# Altium schematic symbol library USB Connectors WR-COM.SchLib: 47 symbols (part 1 of 2)
Pins are listed as number, name and electrical type; pins without a type are passive.

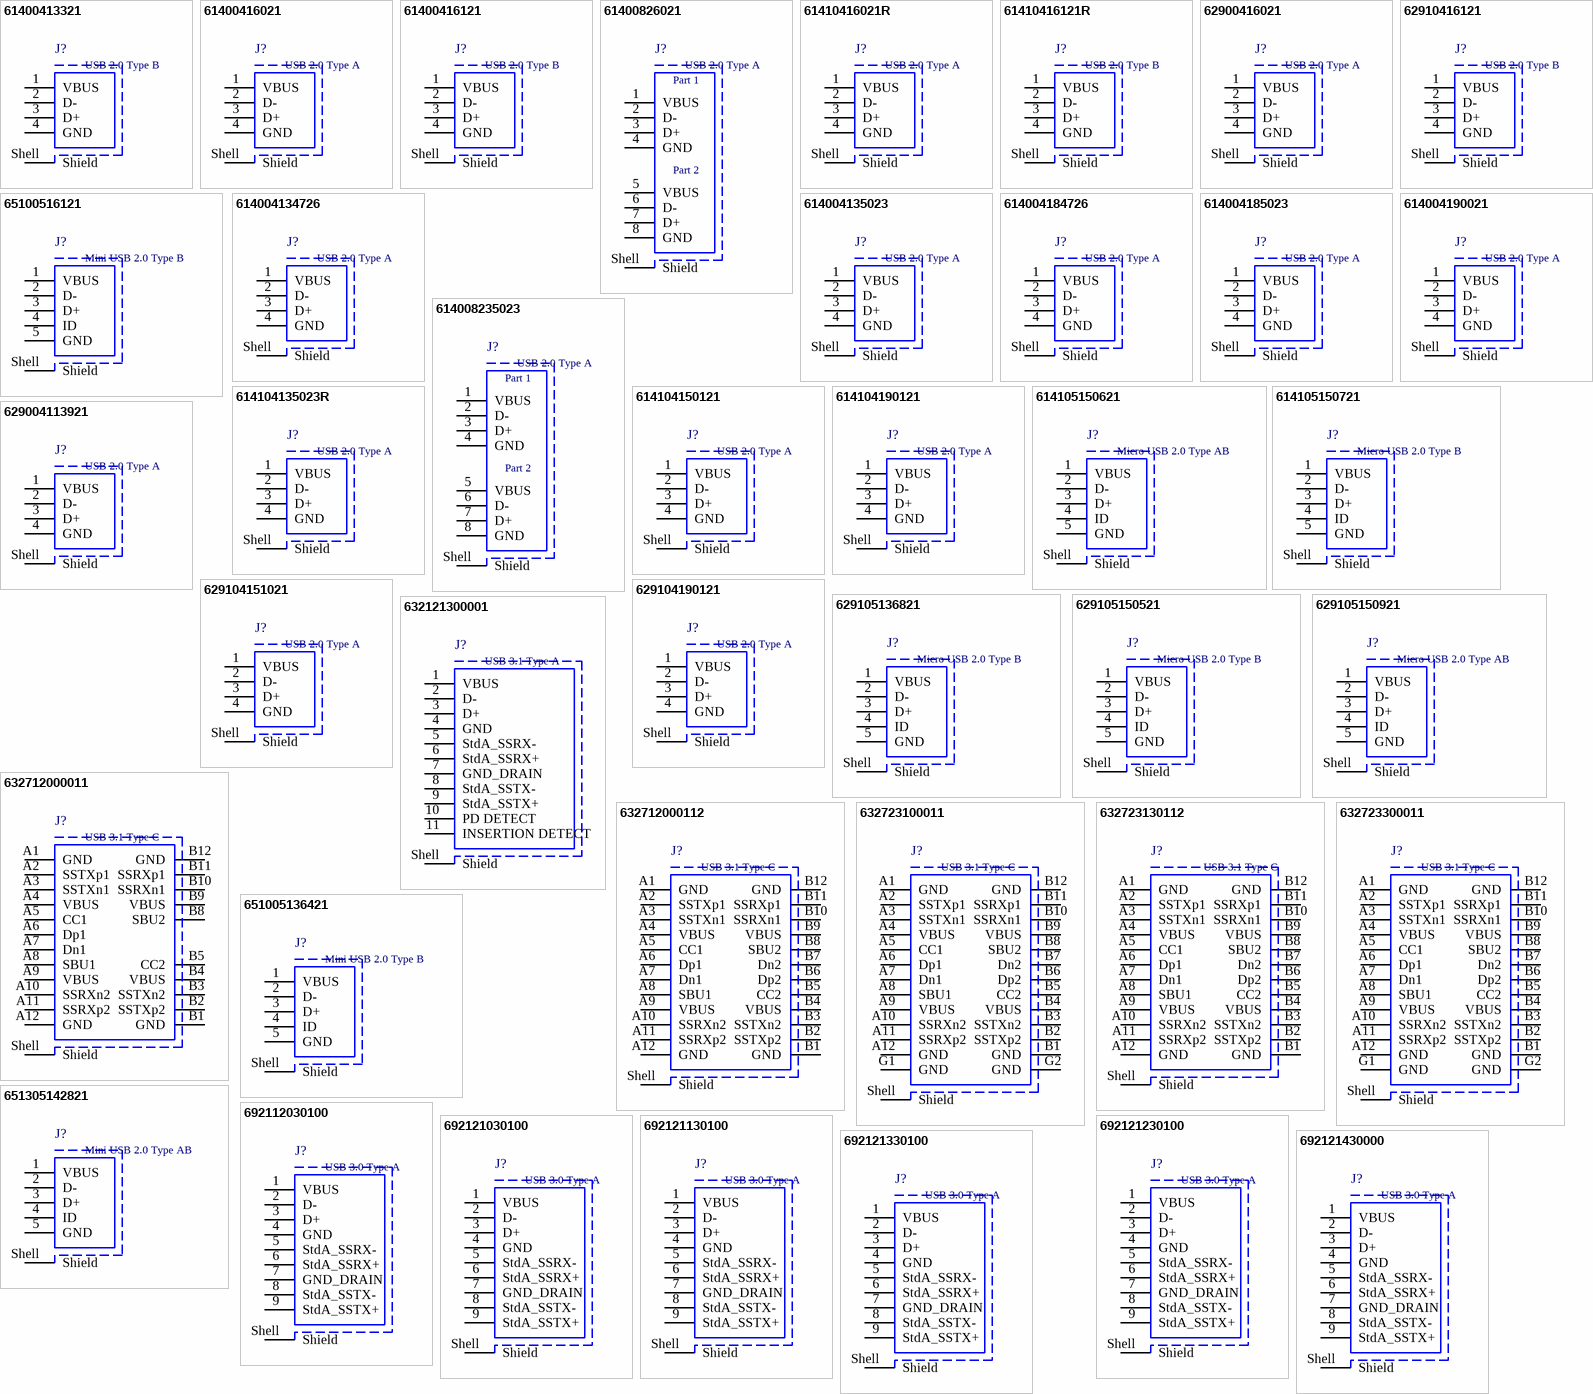
[diagram p0: symbols 61400413321 to 692121430000]

## 61400413321
designator J?, comment USB 2.0 Type B
USB 2.0 Type B Receptacle WR-COM, Vertical, THT; Manufacturer: Wurth Elektronik; Manufacturer Part Number: 61400413321; Rated Current: 1.5 A; Contact Resistance: 20 mOhm; Working Voltage: 30 VAC; ComponentLink1Description: Datasheet; ComponentLink1URL: https://katalog.we-online.de/em/datasheet/61400413321.pdf; Published Date: September 2018; Orientation: Vertical; Connector Type: USB 2.0 Type B; Operating Temperature: -40 to 105 degC; Gender: Receptacle; Packaging: Tray; Supplier 1 URL: https://www.mouser.vn/ProductDetail/Wurth-Elektronik/61400413321?qs=rS3zZhy2AQPX0EcryzeSDw%3D%3D; Supplier 2 URL: N/A; Supplier 3 SN: N/A; Supplier 3 URL: https://www.thegioiic.com/bf180-cong-usb-cai-2-0-type-b-4-chan-thang-xuyen-lo; Value: USB 2.0 Type B; LCSC Part #: N/A; Mount: THT; Package / Case: N/A; Supplier 1: Mouser; Supplier 1 Part Number: 710-61400413321; Supplier 2: Digi-Key; Supplier 2 Part Number: N/A; Supplier 3: thegioiic; Supplier 3 Part Number: N/A
footprint 61400413321
pins: 1 VBUS, 2 D-, 3 D+, 4 GND, Shell Shield

## 61400416021
designator J?, comment USB 2.0 Type A
USB 2.0 Type A Receptacle WR-COM, Horizontal, THT; Manufacturer: Wurth Elektronik; Manufacturer Part Number: 61400416021; Rated Current: 1.5 A; Contact Resistance: 20 mOhm; Working Voltage: 30 VAC; ComponentLink1Description: Datasheet; ComponentLink1URL: https://katalog.we-online.de/em/datasheet/61400416021.pdf; Published Date: September 2018; Orientation: Horizontal; Connector Type: USB 2.0 Type A; Operating Temperature: -40 to 105 degC; Gender: Receptacle; Packaging: Tray; Supplier 1 URL: https://www.mouser.vn/ProductDetail/Wurth-Elektronik/61400416021?qs=rS3zZhy2AQM1ZldAqz%2FFOw%3D%3D; Supplier 2 URL: N/A; Supplier 3 SN: N/A; Supplier 3 URL: N/A; Value: USB 2.0 Type A; LCSC Part #: N/A; Mount: THT; Package / Case: N/A; Supplier 1: Mouser; Supplier 1 Part Number: 710-61400416021; Supplier 2: Digi-Key; Supplier 2 Part Number: N/A; Supplier 3: thegioiic; Supplier 3 Part Number: N/A
footprint 61400416021
pins: 1 VBUS, 2 D-, 3 D+, 4 GND, Shell Shield

## 61400416121
designator J?, comment USB 2.0 Type B
USB 2.0 Type B Receptacle WR-COM, Horizontal, THT, with Pads and Pegs; Manufacturer: Wurth Elektronik; Manufacturer Part Number: 61400416121; Rated Current: 1.5 A; Contact Resistance: 20 mOhm; Working Voltage: 30 VAC; ComponentLink1Description: Datasheet; ComponentLink1URL: https://katalog.we-online.de/em/datasheet/61400416121.pdf; Published Date: September 2018; Orientation: Horizontal; Connector Type: USB 2.0 Type B; Operating Temperature: -40 to 105 degC; Gender: Receptacle; Packaging: Tray; Supplier 1 URL: https://www.mouser.vn/ProductDetail/Wurth-Elektronik/61400416121?qs=rS3zZhy2AQOfJvFesH7XZA%3D%3D; Supplier 2 URL: N/A; Supplier 3 SN: N/A; Supplier 3 URL: N/A; Value: USB 2.0 Type B; LCSC Part #: N/A; Mount: THT; Package / Case: N/A; Supplier 1: Mouser; Supplier 1 Part Number: 710-61400416121; Supplier 2: Digi-Key; Supplier 2 Part Number: N/A; Supplier 3: thegioiic; Supplier 3 Part Number: N/A
footprint 61400416121
pins: 1 VBUS, 2 D-, 3 D+, 4 GND, Shell Shield

## 61400826021
designator J?, comment USB 2.0 Type A
USB 2.0 Type A Receptacle WR-COM, Stacked Horizontal, THT; Manufacturer: Wurth Elektronik; Manufacturer Part Number: 61400826021; Rated Current: 1.5 A; Contact Resistance: 20 mOhm; Working Voltage: 30 VAC; ComponentLink1Description: Datasheet; ComponentLink1URL: https://katalog.we-online.de/em/datasheet/61400826021.pdf; Published Date: September 2018; Orientation: Stacked Horizontal; Connector Type: USB 2.0 Type A; Operating Temperature: -40 to 105 degC; Gender: Receptacle; Packaging: Tray; Supplier 1 URL: https://www.mouser.vn/ProductDetail/Wurth-Elektronik/61400826021?qs=rS3zZhy2AQNRjP3Vs%2FPxTg%3D%3D; Supplier 2 URL: N/A; Supplier 3 SN: N/A; Supplier 3 URL: https://www.thegioiic.com/cong-usb-cai-doi-2-0-type-a-8-chan-cong-90-do-v2; Value: USB 2.0 Type A; LCSC Part #: N/A; Mount: THT; Package / Case: N/A; Supplier 1: Mouser; Supplier 1 Part Number: 710-61400826021; Supplier 2: Digi-Key; Supplier 2 Part Number: N/A; Supplier 3: thegioiic; Supplier 3 Part Number: N/A
footprint 61400826021
pins: 1 VBUS, 2 D-, 3 D+, 4 GND, 5 VBUS, 6 D-, 7 D+, 8 GND, Shell Shield
text: Part 1; Part 2

## 61410416021R
designator J?, comment USB 2.0 Type A
USB 2.0 Type A Receptacle WR-COM, Horizontal, SMT; Manufacturer: Wurth Elektronik; Manufacturer Part Number: 61410416021R; Rated Current: 1.5 A; Contact Resistance: 30 mOhm; Working Voltage: 30 VAC; ComponentLink1Description: Datasheet; ComponentLink1URL: https://katalog.we-online.de/em/datasheet/61410416021R.pdf; Published Date: September 2018; Orientation: Horizontal; Connector Type: USB 2.0 Type A; Operating Temperature: -55 to 85 degC; Gender: Receptacle; Packaging: Tape and Reel; Supplier 1 URL: N/A; Supplier 2 URL: N/A; Supplier 3 SN: N/A; Supplier 3 URL: N/A; Value: USB 2.0 Type A; LCSC Part #: N/A; Mount: SMT; Package / Case: N/A; Supplier 1: Mouser; Supplier 1 Part Number: N/A; Supplier 2: Digi-Key; Supplier 2 Part Number: N/A; Supplier 3: thegioiic; Supplier 3 Part Number: N/A
footprint 61410416021R
pins: 1 VBUS, 2 D-, 3 D+, 4 GND, Shell Shield

## 61410416121R
designator J?, comment USB 2.0 Type B
USB 2.0 Type B Receptacle WR-COM, Horizontal, SMT; Manufacturer: Wurth Elektronik; Manufacturer Part Number: 61410416121R; Rated Current: 1.5 A; Contact Resistance: 30 mOhm; Working Voltage: 30 VAC; ComponentLink1Description: Datasheet; ComponentLink1URL: https://katalog.we-online.de/em/datasheet/61410416121R.pdf; Published Date: September 2018; Orientation: Horizontal; Connector Type: USB 2.0 Type B; Operating Temperature: -55 to 85 degC; Gender: Receptacle; Packaging: Tape and Reel; Supplier 1 URL: N/A; Supplier 2 URL: N/A; Supplier 3 SN: N/A; Supplier 3 URL: https://www.thegioiic.com/bf90-cong-usb-cai-2-0-type-b-4-chan-cong-90-do-xuyen-lo; Value: USB 2.0 Type B; LCSC Part #: N/A; Mount: SMT; Package / Case: N/A; Supplier 1: Mouser; Supplier 1 Part Number: N/A; Supplier 2: Digi-Key; Supplier 2 Part Number: N/A; Supplier 3: thegioiic; Supplier 3 Part Number: N/A
footprint 61410416121R
pins: 1 VBUS, 2 D-, 3 D+, 4 GND, Shell Shield

## 62900416021
designator J?, comment USB 2.0 Type A
USB 2.0 Type A Receptacle WR-COM, Horizontal, SMT; Manufacturer: Wurth Elektronik; Manufacturer Part Number: 62900416021; Rated Current: 1.5 A; Contact Resistance: 20 mOhm; Working Voltage: 30 VAC; ComponentLink1Description: Datasheet; ComponentLink1URL: https://katalog.we-online.de/em/datasheet/62900416021.pdf; Published Date: September 2018; Orientation: Horizontal; Connector Type: USB 2.0 Type A; Operating Temperature: -40 to 105 degC; Gender: Receptacle; Packaging: Tray; Supplier 1 URL: https://www.mouser.vn/ProductDetail/Wurth-Elektronik/62900416021?qs=7gQLVZk5cPluNNYrEeR0bw%3D%3D; Supplier 2 URL: N/A; Supplier 3 SN: N/A; Supplier 3 URL: N/A; Value: USB 2.0 Type A; LCSC Part #: N/A; Mount: SMT; Package / Case: N/A; Supplier 1: Mouser; Supplier 1 Part Number: 710-62900416021; Supplier 2: Digi-Key; Supplier 2 Part Number: N/A; Supplier 3: thegioiic; Supplier 3 Part Number: N/A
footprint 62900416021
pins: 1 VBUS, 2 D-, 3 D+, 4 GND, Shell Shield

## 62910416121
designator J?, comment USB 2.0 Type B
USB 2.0 Type B Receptacle WR-COM, Horizontal, SMT, with Pads and Pegs; Manufacturer: Wurth Elektronik; Manufacturer Part Number: 62910416121; Rated Current: 1.5 A; Contact Resistance: 20 mOhm; Working Voltage: 30 VAC; ComponentLink1Description: Datasheet; ComponentLink1URL: https://katalog.we-online.de/em/datasheet/62910416121.pdf; Published Date: September 2018; Orientation: Horizontal; Connector Type: USB 2.0 Type B; Operating Temperature: -40 to 105 degC; Gender: Receptacle; Packaging: Tape and Reel; Supplier 1 URL: https://www.mouser.vn/ProductDetail/Wurth-Elektronik/62910416121?qs=7gQLVZk5cPl%252BMjVYEg%252B8ng%3D%3D; Supplier 2 URL: N/A; Supplier 3 SN: N/A; Supplier 3 URL: https://www.thegioiic.com/bf90-cong-usb-cai-2-0-type-b-4-chan-thang-dan-smd; Value: USB 2.0 Type B; LCSC Part #: N/A; Mount: SMT; Package / Case: N/A; Supplier 1: Mouser; Supplier 1 Part Number: 710-62910416121; Supplier 2: Digi-Key; Supplier 2 Part Number: N/A; Supplier 3: thegioiic; Supplier 3 Part Number: N/A
footprint 62910416121
pins: 1 VBUS, 2 D-, 3 D+, 4 GND, Shell Shield

## 65100516121
designator J?, comment Mini USB 2.0 Type B
Mini USB 2.0 Type B Receptacle WR-COM, Horizontal, SMT, with Pads and Pegs; Manufacturer: Wurth Elektronik; Manufacturer Part Number: 65100516121; Rated Current: 1 A; Contact Resistance: 20 mOhm; Working Voltage: 30 VAC; ComponentLink1Description: Datasheet; ComponentLink1URL: https://katalog.we-online.de/em/datasheet/65100516121.pdf; Published Date: September 2018; Orientation: Horizontal; Connector Type: Mini USB 2.0 Type B; Operating Temperature: -40 to 105 degC; Gender: Receptacle; Packaging: Tape and Reel; Supplier 1 URL: https://www.mouser.vn/ProductDetail/Wurth-Elektronik/65100516121?qs=rS3zZhy2AQPLyCguT204Og%3D%3D; Supplier 2 URL: N/A; Supplier 3 SN: N/A; Supplier 3 URL: N/A; Value: Mini USB 2.0 Type B; LCSC Part #: N/A; Mount: SMT; Package / Case: N/A; Supplier 1: Mouser; Supplier 1 Part Number: 710-65100516121; Supplier 2: Digi-Key; Supplier 2 Part Number: N/A; Supplier 3: thegioiic; Supplier 3 Part Number: N/A
footprint 65100516121
pins: 1 VBUS, 2 D-, 3 D+, 4 ID, 5 GND, Shell Shield

## 614004134726
designator J?, comment USB 2.0 Type A
USB 2.0 Type A Receptacle WR-COM, Up Right, THT; Manufacturer: Wurth Elektronik; Manufacturer Part Number: 614004134726; Rated Current: 1.5 A; Contact Resistance: 20 mOhm; Working Voltage: 30 VAC; ComponentLink1Description: Datasheet; ComponentLink1URL: https://katalog.we-online.de/em/datasheet/614004134726.pdf; Published Date: September 2018; Orientation: Up Right; Connector Type: USB 2.0 Type A; Operating Temperature: -40 to 105 degC; Gender: Receptacle; Packaging: Tray; Supplier 1 URL: https://www.mouser.vn/ProductDetail/Wurth-Elektronik/614004134726?qs=rS3zZhy2AQNbVw9UXcmAhg%3D%3D; Supplier 2 URL: N/A; Supplier 3 SN: N/A; Supplier 3 URL: https://www.thegioiic.com/cong-usb-cai-2-0-type-a-4-chan-cong-90-do; Value: USB 2.0 Type A; LCSC Part #: N/A; Mount: THT; Package / Case: N/A; Supplier 1: Mouser; Supplier 1 Part Number: 710-614004134726; Supplier 2: Digi-Key; Supplier 2 Part Number: N/A; Supplier 3: thegioiic; Supplier 3 Part Number: N/A
footprint 614004134726
pins: 1 VBUS, 2 D-, 3 D+, 4 GND, Shell Shield

## 614004135023
designator J?, comment USB 2.0 Type A
USB 2.0 Type A Receptacle WR-COM, Vertical, THT; Manufacturer: Wurth Elektronik; Manufacturer Part Number: 614004135023; Rated Current: 1.5 A; Contact Resistance: 20 mOhm; Working Voltage: 30 VAC; ComponentLink1Description: Datasheet; ComponentLink1URL: https://katalog.we-online.de/em/datasheet/614004135023.pdf; Published Date: September 2018; Orientation: Vertical; Connector Type: USB 2.0 Type A; Operating Temperature: -40 to 105 degC; Gender: Receptacle; Packaging: Tray; Supplier 1 URL: https://www.mouser.vn/ProductDetail/Wurth-Elektronik/614004135023?qs=rS3zZhy2AQOqyRkjM2kpsA%3D%3D; Supplier 2 URL: N/A; Supplier 3 SN: N/A; Supplier 3 URL: https://www.thegioiic.com/af180-cong-usb-cai-2-0-type-a-4-chan-thang-xuyen-lo; Value: USB 2.0 Type A; LCSC Part #: N/A; Mount: THT; Package / Case: N/A; Supplier 1: Mouser; Supplier 1 Part Number: 710-614004135023; Supplier 2: Digi-Key; Supplier 2 Part Number: N/A; Supplier 3: thegioiic; Supplier 3 Part Number: N/A
footprint 614004135023
pins: 1 VBUS, 2 D-, 3 D+, 4 GND, Shell Shield

## 614004184726
designator J?, comment USB 2.0 Type A
USB 2.0 Type A Receptacle WR-COM, Up Right, THT, Short Type; Manufacturer: Wurth Elektronik; Manufacturer Part Number: 614004184726; Rated Current: 2 A; Contact Resistance: 30 mOhm; Working Voltage: 30 VAC; ComponentLink1Description: Datasheet; ComponentLink1URL: https://katalog.we-online.de/em/datasheet/614004184726.pdf; Published Date: September 2018; Orientation: Up Right; Connector Type: USB 2.0 Type A; Operating Temperature: -40 to 85 degC; Gender: Receptacle; Packaging: Tray; Supplier 1 URL: https://www.mouser.vn/ProductDetail/Wurth-Elektronik/614004184726?qs=DvsTirrhYfNgYyvzU3HeBQ%3D%3D; Supplier 2 URL: N/A; Supplier 3 SN: N/A; Supplier 3 URL: N/A; Value: USB 2.0 Type A; LCSC Part #: N/A; Mount: THT; Package / Case: N/A; Supplier 1: Mouser; Supplier 1 Part Number: 710-614004184726; Supplier 2: Digi-Key; Supplier 2 Part Number: N/A; Supplier 3: thegioiic; Supplier 3 Part Number: N/A
footprint 614004184726
pins: 1 VBUS, 2 D-, 3 D+, 4 GND, Shell Shield

## 614004185023
designator J?, comment USB 2.0 Type A
USB 2.0 Type A Receptacle WR-COM, Vertical, THT, Short Type; Manufacturer: Wurth Elektronik; Manufacturer Part Number: 614004185023; Rated Current: 1.5 A; Contact Resistance: 30 mOhm; Working Voltage: 30 VAC; ComponentLink1Description: Datasheet; ComponentLink1URL: https://katalog.we-online.de/em/datasheet/614004185023.pdf; Published Date: September 2018; Orientation: Vertical; Connector Type: USB 2.0 Type A; Operating Temperature: -55 to 85 degC; Gender: Receptacle; Packaging: Tray; Supplier 1 URL: https://www.mouser.vn/ProductDetail/Wurth-Elektronik/614004185023?qs=DvsTirrhYfM3pfoSf%2FDhmA%3D%3D; Supplier 2 URL: N/A; Supplier 3 SN: N/A; Supplier 3 URL: N/A; Value: USB 2.0 Type A; LCSC Part #: N/A; Mount: THT; Package / Case: N/A; Supplier 1: Mouser; Supplier 1 Part Number: 710-614004185023; Supplier 2: Digi-Key; Supplier 2 Part Number: N/A; Supplier 3: thegioiic; Supplier 3 Part Number: N/A
footprint 614004185023
pins: 1 VBUS, 2 D-, 3 D+, 4 GND, Shell Shield

## 614004190021
designator J?, comment USB 2.0 Type A
USB 2.0 Type A Receptacle WR-COM, Horizontal, THT, with High Current at Pin 1 & 4; Manufacturer: Wurth Elektronik; Manufacturer Part Number: 614004190021; Rated Current: 3 A; Contact Resistance: 30 mOhm; Working Voltage: 30 VAC; ComponentLink1Description: Datasheet; ComponentLink1URL: https://katalog.we-online.de/em/datasheet/614004190021.pdf; Published Date: September 2018; Orientation: Horizontal; Connector Type: USB 2.0 Type A; Operating Temperature: -40 to 85 degC; Gender: Receptacle; Packaging: Tray; Supplier 1 URL: https://www.mouser.vn/ProductDetail/Wurth-Elektronik/614004190021?qs=DvsTirrhYfPiiHUeEQNGBQ%3D%3D; Supplier 2 URL: N/A; Supplier 3 SN: N/A; Supplier 3 URL: N/A; Value: USB 2.0 Type A; LCSC Part #: N/A; Mount: THT; Package / Case: N/A; Supplier 1: Mouser; Supplier 1 Part Number: 710-614004190021; Supplier 2: Digi-Key; Supplier 2 Part Number: N/A; Supplier 3: thegioiic; Supplier 3 Part Number: N/A
footprint 614004190021
pins: 1 VBUS, 2 D-, 3 D+, 4 GND, Shell Shield

## 614008235023
designator J?, comment USB 2.0 Type A
USB 2.0 Type A Receptacle WR-COM, Stacked Vertical, THT; Manufacturer: Wurth Elektronik; Manufacturer Part Number: 614008235023; Rated Current: 1.5 A; Contact Resistance: 20 mOhm; Working Voltage: 30 VAC; ComponentLink1Description: Datasheet; ComponentLink1URL: https://katalog.we-online.de/em/datasheet/614008235023.pdf; Published Date: September 2018; Orientation: Stacked Vertical; Connector Type: USB 2.0 Type A; Operating Temperature: -40 to 105 degC; Gender: Receptacle; Packaging: Tray; Supplier 1 URL: https://www.mouser.vn/ProductDetail/Wurth-Elektronik/614008235023?qs=rS3zZhy2AQP6TSxAYKTnAw%3D%3D; Supplier 2 URL: N/A; Supplier 3 SN: N/A; Supplier 3 URL: N/A; Value: USB 2.0 Type A; LCSC Part #: N/A; Mount: THT; Package / Case: N/A; Supplier 1: Mouser; Supplier 1 Part Number: 710-614008235023; Supplier 2: Digi-Key; Supplier 2 Part Number: N/A; Supplier 3: thegioiic; Supplier 3 Part Number: N/A
footprint 614008235023
pins: 1 VBUS, 2 D-, 3 D+, 4 GND, 5 VBUS, 6 D-, 7 D+, 8 GND, Shell Shield
text: Part 1; Part 2

## 614104135023R
designator J?, comment USB 2.0 Type A
USB 2.0 Type A Receptacle WR-COM, Vertical, SMT; Manufacturer: Wurth Elektronik; Manufacturer Part Number: 614104135023R; Rated Current: 1.5 A; Contact Resistance: 30 mOhm; Working Voltage: 30 VAC; ComponentLink1Description: Datasheet; ComponentLink1URL: https://katalog.we-online.de/em/datasheet/614104135023R.pdf; Published Date: September 2018; Orientation: Vertical; Connector Type: USB 2.0 Type A; Operating Temperature: -55 to 85 degC; Gender: Receptacle; Packaging: Tape and Reel; Supplier 1 URL: N/A; Supplier 2 URL: N/A; Supplier 3 SN: N/A; Supplier 3 URL: N/A; Value: USB 2.0 Type A; LCSC Part #: N/A; Mount: SMT; Package / Case: N/A; Supplier 1: Mouser; Supplier 1 Part Number: N/A; Supplier 2: Digi-Key; Supplier 2 Part Number: N/A; Supplier 3: thegioiic; Supplier 3 Part Number: N/A
footprint 614104135023R
pins: 1 VBUS, 2 D-, 3 D+, 4 GND, Shell Shield

## 614104150121
designator J?, comment USB 2.0 Type A
USB 2.0 Type A Receptacle WR-COM, Horizontal, THT, with Clips; Manufacturer: Wurth Elektronik; Manufacturer Part Number: 614104150121; Rated Current: 1.5 A; Contact Resistance: 30 mOhm; Working Voltage: 30 VAC; ComponentLink1Description: Datasheet; ComponentLink1URL: https://katalog.we-online.de/em/datasheet/614104150121%282%29.pdf; Published Date: September 2018; Orientation: Horizontal; Connector Type: USB 2.0 Type A; Operating Temperature: -40 to 85 degC; Gender: Receptacle; Packaging: Tape and Reel; Supplier 1 URL: https://www.mouser.vn/ProductDetail/Wurth-Elektronik/614104150121?qs=a9WhcLg8qCz3wt21uTqGxw%3D%3D; Supplier 2 URL: N/A; Supplier 3 SN: N/A; Supplier 3 URL: N/A; Value: USB 2.0 Type A; LCSC Part #: N/A; Mount: THT; Package / Case: N/A; Supplier 1: Mouser; Supplier 1 Part Number: 710-614104150121; Supplier 2: Digi-Key; Supplier 2 Part Number: N/A; Supplier 3: thegioiic; Supplier 3 Part Number: N/A
footprint 614104150121
pins: 1 VBUS, 2 D-, 3 D+, 4 GND, Shell Shield

## 614104190121
designator J?, comment USB 2.0 Type A
USB 2.0 Type A Receptacle WR-COM, Horizontal, THT, Short Type with Clips; Manufacturer: Wurth Elektronik; Manufacturer Part Number: 614104190121; Rated Current: 1.5 A; Contact Resistance: 30 mOhm; Working Voltage: 30 VAC; ComponentLink1Description: Datasheet; ComponentLink1URL: https://katalog.we-online.de/em/datasheet/614104190121.pdf; Published Date: September 2018; Orientation: Horizontal; Connector Type: USB 2.0 Type A; Operating Temperature: -55 to 85 degC; Gender: Receptacle; Packaging: Tape and Reel; Supplier 1 URL: https://www.mouser.vn/ProductDetail/Wurth-Elektronik/614104190121?qs=DvsTirrhYfMPx7JlubFZPg%3D%3D; Supplier 2 URL: N/A; Supplier 3 SN: N/A; Supplier 3 URL: N/A; Value: USB 2.0 Type A; LCSC Part #: N/A; Mount: THT; Package / Case: N/A; Supplier 1: Mouser; Supplier 1 Part Number: 710-614104190121; Supplier 2: Digi-Key; Supplier 2 Part Number: N/A; Supplier 3: thegioiic; Supplier 3 Part Number: N/A
footprint 614104190121
pins: 1 VBUS, 2 D-, 3 D+, 4 GND, Shell Shield

## 614105150621
designator J?, comment Micro USB 2.0 Type AB
Micro USB 2.0 Type AB Receptacle WR-COM, Vertical, THT; Manufacturer: Wurth Elektronik; Manufacturer Part Number: 614105150621; Rated Current: 1.8 A; Contact Resistance: 30 mOhm; Working Voltage: 30 VAC; ComponentLink1Description: Datasheet; ComponentLink1URL: https://katalog.we-online.de/em/datasheet/614105150621.pdf; Published Date: September 2018; Orientation: Vertical; Connector Type: Micro USB 2.0 Type AB; Operating Temperature: -40 to 85 degC; Gender: Receptacle; Packaging: Tape and Reel; Supplier 1 URL: https://www.mouser.vn/ProductDetail/Wurth-Elektronik/614105150621?qs=a9WhcLg8qCwYtG%252B1m8lwPw%3D%3D; Supplier 2 URL: N/A; Supplier 3 SN: N/A; Supplier 3 URL: N/A; Value: Micro USB 2.0 Type AB; LCSC Part #: N/A; Mount: THT; Package / Case: N/A; Supplier 1: Mouser; Supplier 1 Part Number: 710-614105150621; Supplier 2: Digi-Key; Supplier 2 Part Number: N/A; Supplier 3: thegioiic; Supplier 3 Part Number: N/A
footprint 614105150621
pins: 1 VBUS, 2 D-, 3 D+, 4 ID, 5 GND, Shell Shield

## 614105150721
designator J?, comment Micro USB 2.0 Type B
Micro USB 2.0 Type B Receptacle WR-COM, Vertical, THT; Manufacturer: Wurth Elektronik; Manufacturer Part Number: 614105150721; Rated Current: 1.8 A; Contact Resistance: 30 mOhm; Working Voltage: 30 VAC; ComponentLink1Description: Datasheet; ComponentLink1URL: https://katalog.we-online.de/em/datasheet/614105150721.pdf; Published Date: September 2018; Orientation: Vertical; Connector Type: Micro USB 2.0 Type B; Operating Temperature: -40 to 85 degC; Gender: Receptacle; Packaging: Tape and Reel; Supplier 1 URL: https://www.mouser.vn/ProductDetail/Wurth-Elektronik/614105150721?qs=a9WhcLg8qCw5r6rjD3973Q%3D%3D; Supplier 2 URL: N/A; Supplier 3 SN: N/A; Supplier 3 URL: N/A; Value: Micro USB 2.0 Type B; LCSC Part #: N/A; Mount: THT; Package / Case: N/A; Supplier 1: Mouser; Supplier 1 Part Number: 710-614105150721; Supplier 2: Digi-Key; Supplier 2 Part Number: N/A; Supplier 3: thegioiic; Supplier 3 Part Number: N/A
footprint 614105150721
pins: 1 VBUS, 2 D-, 3 D+, 4 ID, 5 GND, Shell Shield

## 629004113921
designator J?, comment USB 2.0 Type A
USB 2.0 Type A Plug WR-COM, Horizontal, SMT, with Clips; Manufacturer: Wurth Elektronik; Manufacturer Part Number: 629004113921; Rated Current: 1.5 A; Contact Resistance: 20 mOhm; Working Voltage: 30 VAC; ComponentLink1Description: Datasheet; ComponentLink1URL: https://katalog.we-online.de/em/datasheet/629004113921.pdf; Published Date: September 2018; Orientation: Horizontal; Connector Type: USB 2.0 Type A; Operating Temperature: -40 to 105 degC; Gender: Plug; Packaging: Tube; Supplier 1 URL: https://www.mouser.vn/ProductDetail/Wurth-Elektronik/629004113921?qs=35zkduByVmhHRkVkRjAlEQ%3D%3D; Supplier 2 URL: N/A; Supplier 3 SN: N/A; Supplier 3 URL: https://www.thegioiic.com/cong-usb-duc-2-0-type-a-4-chan-thang-han-day-vo-den; Value: USB 2.0 Type A; LCSC Part #: N/A; Mount: SMT; Package / Case: N/A; Supplier 1: Mouser; Supplier 1 Part Number: 710-629004113921; Supplier 2: Digi-Key; Supplier 2 Part Number: N/A; Supplier 3: thegioiic; Supplier 3 Part Number: N/A
footprint 629004113921
pins: 1 VBUS, 2 D-, 3 D+, 4 GND, Shell Shield

## 629104151021
designator J?, comment USB 2.0 Type A
USB 2.0 Type A Receptacle WR-COM, Horizontal, SMT, with Pegs; Manufacturer: Wurth Elektronik; Manufacturer Part Number: 629104151021; Rated Current: 1.5 A; Contact Resistance: 30 mOhm; Working Voltage: 30 VAC; ComponentLink1Description: Datasheet; ComponentLink1URL: https://katalog.we-online.de/em/datasheet/629104151021.pdf; Published Date: September 2018; Orientation: Horizontal; Connector Type: USB 2.0 Type A; Operating Temperature: -40 to 85 degC; Gender: Receptacle; Packaging: Tape and Reel; Supplier 1 URL: https://www.mouser.vn/ProductDetail/Wurth-Elektronik/629104151021?qs=sGAEpiMZZMvlX3nhDDO4APt9wDfpfys0wILcvsJYjRU%3D; Supplier 2 URL: N/A; Supplier 3 SN: N/A; Supplier 3 URL: N/A; Value: USB 2.0 Type A; LCSC Part #: N/A; Mount: SMT; Package / Case: N/A; Supplier 1: Mouser; Supplier 1 Part Number: 710-629104151021; Supplier 2: Digi-Key; Supplier 2 Part Number: N/A; Supplier 3: thegioiic; Supplier 3 Part Number: N/A
footprint 629104151021
pins: 1 VBUS, 2 D-, 3 D+, 4 GND, Shell Shield

## 629104190121
designator J?, comment USB 2.0 Type A
USB 2.0 Type A Receptacle WR-COM, Horizontal, SMT, Short Type with Pads and Pegs; Manufacturer: Wurth Elektronik; Manufacturer Part Number: 629104190121; Rated Current: 1.5 A; Contact Resistance: 30 mOhm; Working Voltage: 30 VAC; ComponentLink1Description: Datasheet; ComponentLink1URL: https://katalog.we-online.de/em/datasheet/629104190121.pdf; Published Date: September 2018; Orientation: Horizontal; Connector Type: USB 2.0 Type A; Operating Temperature: -40 to 85 degC; Gender: Receptacle; Packaging: Tape and Reel; Supplier 1 URL: https://www.mouser.vn/ProductDetail/Wurth-Elektronik/629104190121?qs=lBTPRtX1sU8FkkdswgHZbg%3D%3D; Supplier 2 URL: N/A; Supplier 3 SN: N/A; Supplier 3 URL: N/A; Value: USB 2.0 Type A; LCSC Part #: N/A; Mount: SMT; Package / Case: N/A; Supplier 1: Mouser; Supplier 1 Part Number: 710-629104190121; Supplier 2: Digi-Key; Supplier 2 Part Number: N/A; Supplier 3: thegioiic; Supplier 3 Part Number: N/A
footprint 629104190121
pins: 1 VBUS, 2 D-, 3 D+, 4 GND, Shell Shield

## 629105136821
designator J?, comment Micro USB 2.0 Type B
Micro USB 2.0 Type B Receptacle WR-COM, Horizontal, SMT, with Pads and Pegs; Manufacturer: Wurth Elektronik; Manufacturer Part Number: 629105136821; Rated Current: 1 A; Contact Resistance: 30 mOhm; Working Voltage: 30 VAC; ComponentLink1Description: Datasheet; ComponentLink1URL: https://katalog.we-online.de/em/datasheet/629105136821.pdf; Published Date: September 2018; Orientation: Horizontal; Connector Type: Micro USB 2.0 Type B; Operating Temperature: -40 to 105 degC; Gender: Receptacle; Packaging: Tape and Reel; Supplier 1 URL: https://www.mouser.vn/ProductDetail/Wurth-Elektronik/629105136821?qs=P%2FTEqz%252BQfncvaTjfhhJgDA%3D%3D; Supplier 2 URL: N/A; Supplier 3 SN: N/A; Supplier 3 URL: N/A; Value: Micro USB 2.0 Type B; LCSC Part #: N/A; Mount: SMT; Package / Case: N/A; Supplier 1: Mouser; Supplier 1 Part Number: 710-629105136821; Supplier 2: Digi-Key; Supplier 2 Part Number: N/A; Supplier 3: thegioiic; Supplier 3 Part Number: N/A
footprint 629105136821
pins: 1 VBUS, 2 D-, 3 D+, 4 ID, 5 GND, Shell Shield

## 629105150521
designator J?, comment Micro USB 2.0 Type B
Micro USB 2.0 Type B Receptacle WR-COM, Horizontal, SMT, with Pegs, High Current at Pin 1 & Pin 5; Manufacturer: Wurth Elektronik; Manufacturer Part Number: 629105150521; Rated Current: 3 A; Contact Resistance: 30 mOhm; Working Voltage: 30 VAC; ComponentLink1Description: Datasheet; ComponentLink1URL: https://katalog.we-online.de/em/datasheet/629105150521.pdf; Published Date: September 2018; Orientation: Horizontal; Connector Type: Micro USB 2.0 Type B; Operating Temperature: -40 to 85 degC; Gender: Receptacle; Packaging: Tape and Reel; Supplier 1 URL: https://www.mouser.vn/ProductDetail/Wurth-Elektronik/629105150521?qs=a9WhcLg8qCzXiH7kZP8GRQ%3D%3D; Supplier 2 URL: N/A; Supplier 3 SN: N/A; Supplier 3 URL: N/A; Value: Micro USB 2.0 Type B; LCSC Part #: N/A; Mount: SMT; Package / Case: N/A; Supplier 1: Mouser; Supplier 1 Part Number: 710-629105150521; Supplier 2: Digi-Key; Supplier 2 Part Number: N/A; Supplier 3: thegioiic; Supplier 3 Part Number: N/A
footprint 629105150521
pins: 1 VBUS, 2 D-, 3 D+, 4 ID, 5 GND, Shell Shield

## 629105150921
designator J?, comment Micro USB 2.0 Type AB
Micro USB 2.0 Type AB Receptacle WR-COM, Horizontal, SMT; Manufacturer: Wurth Elektronik; Manufacturer Part Number: 629105150921; Rated Current: 1.8 A; Contact Resistance: 30 mOhm; Working Voltage: 30 VAC; ComponentLink1Description: Datasheet; ComponentLink1URL: https://katalog.we-online.de/em/datasheet/629105150921.pdf; Published Date: September 2018; Orientation: Horizontal; Connector Type: Micro USB 2.0 Type AB; Operating Temperature: -40 to 85 degC; Gender: Receptacle; Packaging: Tape and Reel; Supplier 1 URL: https://www.mouser.vn/ProductDetail/Wurth-Elektronik/629105150921?qs=a9WhcLg8qCztfCBvRE9gEg%3D%3D; Supplier 2 URL: N/A; Supplier 3 SN: N/A; Supplier 3 URL: N/A; Value: Micro USB 2.0 Type AB; LCSC Part #: N/A; Mount: SMT; Package / Case: N/A; Supplier 1: Mouser; Supplier 1 Part Number: 710-629105150921; Supplier 2: Digi-Key; Supplier 2 Part Number: N/A; Supplier 3: thegioiic; Supplier 3 Part Number: N/A
footprint 629105150921
pins: 1 VBUS, 2 D-, 3 D+, 4 ID, 5 GND, Shell Shield

## 632121300001
designator J?, comment USB 3.1 Type A
USB 3.1 Type A Receptacle WR-COM, Horizontal, THT; Manufacturer: Wurth Elektronik; Manufacturer Part Number: 632121300001; Rated Current: 5 A; Contact Resistance: 50 mOhm; Working Voltage: 20 VDC; ComponentLink1Description: Datasheet; ComponentLink1URL: https://katalog.we-online.de/em/datasheet/632121300001.pdf; Published Date: September 2018; Orientation: Horizontal; Connector Type: USB 3.1 Type A; Operating Temperature: -20 to 85 degC; Gender: Receptacle; Packaging: Tray; Supplier 1 URL: https://www.mouser.vn/ProductDetail/Wurth-Elektronik/632121300001?qs=NK6InXoXhq7TSgNc1jHUCw%3D%3D; Supplier 2 URL: N/A; Supplier 3 SN: N/A; Supplier 3 URL: https://www.thegioiic.com/af10-dip-cong-usb-cai-ngan-2-0-type-a-dau-cai-ngan-4-chan-cong-90-do; Value: USB 3.1 Type A; LCSC Part #: N/A; Mount: THT; Package / Case: N/A; Supplier 1: Mouser; Supplier 1 Part Number: 710-632121300001; Supplier 2: Digi-Key; Supplier 2 Part Number: N/A; Supplier 3: thegioiic; Supplier 3 Part Number: N/A
footprint 632121300001
pins: 1 VBUS, 2 D-, 3 D+, 4 GND, 5 StdA_SSRX-, 6 StdA_SSRX+, 7 GND_DRAIN, 8 StdA_SSTX-, 9 StdA_SSTX+, 10 PD DETECT, 11 INSERTION DETECT, Shell Shield

## 632712000011
designator J?, comment USB 3.1 Type C
USB 3.1 Type C Plug WR-COM, Horizontal, SMT; Manufacturer: Wurth Elektronik; Manufacturer Part Number: 632712000011; Rated Current: 5 A; Contact Resistance: 30 mOhm; Working Voltage: 20 VDC; ComponentLink1Description: Datasheet; ComponentLink1URL: https://katalog.we-online.de/em/datasheet/632712000011.pdf; Published Date: September 2018; Orientation: Horizontal; Connector Type: USB 3.1 Type C; Operating Temperature: -25 to 105 degC; Gender: Plug; Packaging: Tape and Reel; Supplier 1 URL: https://www.mouser.vn/ProductDetail/Wurth-Elektronik/632712000011?qs=NK6InXoXhq7nh90vupp8Aw%3D%3D; Supplier 2 URL: N/A; Supplier 3 SN: N/A; Supplier 3 URL: N/A; Value: USB 3.1 Type C; LCSC Part #: N/A; Mount: SMT; Package / Case: N/A; Supplier 1: Mouser; Supplier 1 Part Number: 710-632712000011; Supplier 2: Digi-Key; Supplier 2 Part Number: N/A; Supplier 3: thegioiic; Supplier 3 Part Number: N/A
footprint 632712000011
pins: A1 GND, A2 SSTXp1, A3 SSTXn1, A4 VBUS, A5 CC1, A6 Dp1, A7 Dn1, A8 SBU1, A9 VBUS, A10 SSRXn2, A11 SSRXp2, A12 GND, B1 GND, B2 SSTXp2, B3 SSTXn2, B4 VBUS, B5 CC2, B8 SBU2, B9 VBUS, B10 SSRXn1, B11 SSRXp1, B12 GND, Shell Shield

## 632712000112
designator J?, comment USB 3.1 Type C
USB 3.1 Type C Plug WR-COM, Horizontal, SMT; Manufacturer: Wurth Elektronik; Manufacturer Part Number: 632712000112; Rated Current: 5 A; Working Voltage: 20 VDC; Contact Resistance: 40 mOhm; ComponentLink1Description: Datasheet; ComponentLink1URL: https://katalog.we-online.de/em/datasheet/632712000112.pdf; Published Date: November 2018; Orientation: Horizontal; Connector Type: USB 3.1 Type C; Operating Temperature: -40 to 85 degC; Gender: Plug; Packaging: Tray; Supplier 1 URL: https://www.mouser.vn/ProductDetail/Wurth-Elektronik/632712000112?qs=2WXlatMagcFm%2Fxqsv0gybg%3D%3D; Supplier 2 URL: N/A; Supplier 3 SN: N/A; Supplier 3 URL: N/A; Value: USB 3.1 Type C; LCSC Part #: N/A; Mount: SMT; Package / Case: N/A; Supplier 1: Mouser; Supplier 1 Part Number: 710-632712000112; Supplier 2: Digi-Key; Supplier 2 Part Number: N/A; Supplier 3: thegioiic; Supplier 3 Part Number: N/A
footprint 632712000112
pins: A1 GND, A2 SSTXp1, A3 SSTXn1, A4 VBUS, A5 CC1, A6 Dp1, A7 Dn1, A8 SBU1, A9 VBUS, A10 SSRXn2, A11 SSRXp2, A12 GND, B1 GND, B2 SSTXp2, B3 SSTXn2, B4 VBUS, B5 CC2, B6 Dp2, B7 Dn2, B8 SBU2, B9 VBUS, B10 SSRXn1, B11 SSRXp1, B12 GND, Shell Shield

## 632723100011
designator J?, comment USB 3.1 Type C
USB 3.1 Type C Receptacle WR-COM, Horizontal, SMT / THT; Manufacturer: Wurth Elektronik; Manufacturer Part Number: 632723100011; Rated Current: 5 A; Contact Resistance: 30 mOhm; Working Voltage: 20 VDC; ComponentLink1Description: Datasheet; ComponentLink1URL: https://katalog.we-online.de/em/datasheet/632723x00011%282%29.pdf; Published Date: September 2018; Orientation: Horizontal; Connector Type: USB 3.1 Type C; Operating Temperature: -40 to 105 degC; Gender: Receptacle; Packaging: Tape and Reel; Supplier 1 URL: https://www.mouser.vn/ProductDetail/Wurth-Elektronik/632723100011?qs=NK6InXoXhq4o62C9ULXLjQ%3D%3D; Supplier 2 URL: N/A; Supplier 3 SN: N/A; Supplier 3 URL: https://www.thegioiic.com/cong-usb-cai-3-1-type-c-24-chan-cong-90-do; Value: USB 3.1 Type C; LCSC Part #: N/A; Mount: SMT / THT; Package / Case: N/A; Supplier 1: Mouser; Supplier 1 Part Number: 710-632723100011; Supplier 2: Digi-Key; Supplier 2 Part Number: N/A; Supplier 3: thegioiic; Supplier 3 Part Number: N/A
footprint 632723100011
pins: A1 GND, A2 SSTXp1, A3 SSTXn1, A4 VBUS, A5 CC1, A6 Dp1, A7 Dn1, A8 SBU1, A9 VBUS, A10 SSRXn2, A11 SSRXp2, A12 GND, B1 GND, B2 SSTXp2, B3 SSTXn2, B4 VBUS, B5 CC2, B6 Dp2, B7 Dn2, B8 SBU2, B9 VBUS, B10 SSRXn1, B11 SSRXp1, B12 GND, G1 GND, G2 GND, Shell Shield

## 632723130112
designator J?, comment USB 3.1 Type C
USB 3.1 Type C Receptacle WR-COM, Horizontal, THR / SMT; Manufacturer: Wurth Elektronik; Manufacturer Part Number: 632723130112; Rated Current: 5 A; Working Voltage: 20 VDC; Contact Resistance: 40 mOhm; ComponentLink1Description: Datasheet; ComponentLink1URL: https://katalog.we-online.de/em/datasheet/632723130112.pdf; Published Date: November 2018; Orientation: Horizontal; Connector Type: USB 3.1 Type C; Operating Temperature: -40 to 85 degC; Gender: Receptacle; Packaging: Tape and Reel; Supplier 1 URL: https://www.mouser.vn/ProductDetail/Wurth-Elektronik/632723130112?qs=2WXlatMagcEknienHxbwUw%3D%3D; Supplier 2 URL: N/A; Supplier 3 SN: N/A; Supplier 3 URL: https://www.thegioiic.com/cong-usb-cai-3-1-type-c-24-chan-thang-dan-smd; Value: USB 3.1 Type C; LCSC Part #: C5117883; Mount: THR / SMT; Package / Case: N/A; Supplier 1: Mouser; Supplier 1 Part Number: 710-632723130112; Supplier 2: Digi-Key; Supplier 2 Part Number: N/A; Supplier 3: thegioiic; Supplier 3 Part Number: N/A
footprint 632723130112
pins: A1 GND, A2 SSTXp1, A3 SSTXn1, A4 VBUS, A5 CC1, A6 Dp1, A7 Dn1, A8 SBU1, A9 VBUS, A10 SSRXn2, A11 SSRXp2, A12 GND, B1 GND, B2 SSTXp2, B3 SSTXn2, B4 VBUS, B5 CC2, B6 Dp2, B7 Dn2, B8 SBU2, B9 VBUS, B10 SSRXn1, B11 SSRXp1, B12 GND, Shell Shield

## 632723300011
designator J?, comment USB 3.1 Type C
USB 3.1 Type C Receptacle WR-COM, Horizontal, SMT / THT; Manufacturer: Wurth Elektronik; Manufacturer Part Number: 632723300011; Rated Current: 5 A; Contact Resistance: 30 mOhm; Working Voltage: 20 VDC; ComponentLink1Description: Datasheet; ComponentLink1URL: https://katalog.we-online.de/em/datasheet/632723x00011%282%29.pdf; Published Date: September 2018; Orientation: Horizontal; Connector Type: USB 3.1 Type C; Operating Temperature: -40 to 105 degC; Gender: Receptacle; Packaging: Tape and Reel; Supplier 1 URL: https://www.mouser.vn/ProductDetail/Wurth-Elektronik/632723300011?qs=NK6InXoXhq4%252B5eM1PePLPg%3D%3D; Supplier 2 URL: N/A; Supplier 3 SN: N/A; Supplier 3 URL: https://www.thegioiic.com/cong-usb-cai-3-1-type-c-24-chan-cong-90-do; Value: USB 3.1 Type C; LCSC Part #: N/A; Mount: SMT / THT; Package / Case: N/A; Supplier 1: Mouser; Supplier 1 Part Number: 710-632723300011; Supplier 2: Digi-Key; Supplier 2 Part Number: N/A; Supplier 3: thegioiic; Supplier 3 Part Number: N/A
footprint 632723300011
pins: A1 GND, A2 SSTXp1, A3 SSTXn1, A4 VBUS, A5 CC1, A6 Dp1, A7 Dn1, A8 SBU1, A9 VBUS, A10 SSRXn2, A11 SSRXp2, A12 GND, B1 GND, B2 SSTXp2, B3 SSTXn2, B4 VBUS, B5 CC2, B6 Dp2, B7 Dn2, B8 SBU2, B9 VBUS, B10 SSRXn1, B11 SSRXp1, B12 GND, G1 GND, G2 GND, Shell Shield

## 651005136421
designator J?, comment Mini USB 2.0 Type B
Mini USB 2.0 Type B Receptacle WR-COM, Vertical, THT; Manufacturer: Wurth Elektronik; Manufacturer Part Number: 651005136421; Rated Current: 1 A; Contact Resistance: 20 mOhm; Working Voltage: 30 VAC; ComponentLink1Description: Datasheet; ComponentLink1URL: https://katalog.we-online.de/em/datasheet/651005136421%282%29.pdf; Published Date: September 2018; Orientation: Vertical; Connector Type: Mini USB 2.0 Type B; Operating Temperature: -40 to 105 degC; Gender: Receptacle; Packaging: Tray; Supplier 1 URL: https://www.mouser.vn/ProductDetail/Wurth-Elektronik/651005136421?qs=rS3zZhy2AQP6%2FhZrZUmISw%3D%3D; Supplier 2 URL: N/A; Supplier 3 SN: N/A; Supplier 3 URL: N/A; Value: Mini USB 2.0 Type B; LCSC Part #: N/A; Mount: THT; Package / Case: N/A; Supplier 1: Mouser; Supplier 1 Part Number: 710-651005136421; Supplier 2: Digi-Key; Supplier 2 Part Number: N/A; Supplier 3: thegioiic; Supplier 3 Part Number: N/A
footprint 651005136421
pins: 1 VBUS, 2 D-, 3 D+, 4 ID, 5 GND, Shell Shield

## 651305142821
designator J?, comment Mini USB 2.0 Type AB
Mini USB 2.0 Type AB Receptacle WR-COM, Horizontal, SMT, with Pads; Manufacturer: Wurth Elektronik; Manufacturer Part Number: 651305142821; Rated Current: 1 A; Contact Resistance: 20 mOhm; Working Voltage: 30 VAC; ComponentLink1Description: Datasheet; ComponentLink1URL: https://katalog.we-online.de/em/datasheet/651305142821.pdf; Published Date: September 2018; Orientation: Horizontal; Connector Type: Mini USB 2.0 Type AB; Operating Temperature: -40 to 105 degC; Gender: Receptacle; Packaging: Tape and Reel; Supplier 1 URL: https://www.mouser.vn/ProductDetail/Wurth-Elektronik/651305142821?qs=7gQLVZk5cPlF7bfbuz8kNg%3D%3D; Supplier 2 URL: N/A; Supplier 3 SN: N/A; Supplier 3 URL: N/A; Value: Mini USB 2.0 Type AB; LCSC Part #: N/A; Mount: SMT; Package / Case: N/A; Supplier 1: Mouser; Supplier 1 Part Number: 710-651305142821; Supplier 2: Digi-Key; Supplier 2 Part Number: N/A; Supplier 3: thegioiic; Supplier 3 Part Number: N/A
footprint 651305142821
pins: 1 VBUS, 2 D-, 3 D+, 4 ID, 5 GND, Shell Shield

## 692112030100
designator J?, comment USB 3.0 Type A
USB 3.0 Type A Plug WR-COM, Horizontal, SMT, with Pegs and Clips; Manufacturer: Wurth Elektronik; Manufacturer Part Number: 692112030100; Rated Current: 0.25 A; Contact Resistance: 50 mOhm; Working Voltage: 30 VAC; ComponentLink1Description: Datasheet; ComponentLink1URL: https://katalog.we-online.de/em/datasheet/692112030100.pdf; Published Date: September 2018; Orientation: Horizontal; Connector Type: USB 3.0 Type A; Operating Temperature: -20 to 85 degC; Gender: Plug; Packaging: Tray; Supplier 1 URL: https://www.mouser.vn/ProductDetail/Wurth-Elektronik/692112030100?qs=e5m3IbTHPW8iHQO2HaiyOA%3D%3D; Supplier 2 URL: N/A; Supplier 3 SN: N/A; Supplier 3 URL: https://www.thegioiic.com/cong-usb-duc-3-0-type-a-9-chan-thang-xuyen-lo; Value: USB 3.0 Type A; LCSC Part #: N/A; Mount: SMT; Package / Case: N/A; Supplier 1: Mouser; Supplier 1 Part Number: 710-692112030100; Supplier 2: Digi-Key; Supplier 2 Part Number: N/A; Supplier 3: thegioiic; Supplier 3 Part Number: N/A
footprint 692112030100
pins: 1 VBUS, 2 D-, 3 D+, 4 GND, 5 StdA_SSRX-, 6 StdA_SSRX+, 7 GND_DRAIN, 8 StdA_SSTX-, 9 StdA_SSTX+, Shell Shield

## 692121030100
designator J?, comment USB 3.0 Type A
USB 3.0 Type A Receptacle WR-COM, Horizontal, THT; Manufacturer: Wurth Elektronik; Manufacturer Part Number: 692121030100; Rated Current: 0.25 A; Contact Resistance: 50 mOhm; Working Voltage: 30 VAC; ComponentLink1Description: Datasheet; ComponentLink1URL: https://katalog.we-online.de/em/datasheet/692121030100.pdf; Published Date: September 2018; Orientation: Horizontal; Connector Type: USB 3.0 Type A; Operating Temperature: -20 to 85 degC; Gender: Receptacle; Packaging: Tape and Reel; Supplier 1 URL: https://www.mouser.vn/ProductDetail/Wurth-Elektronik/692121030100?qs=e5m3IbTHPW%252BzU%252B9ZpCsp%2Fg%3D%3D; Supplier 2 URL: N/A; Supplier 3 SN: N/A; Supplier 3 URL: https://www.thegioiic.com/cong-usb-cai-3-0-type-a-9-chan-cong-90-do; Value: USB 3.0 Type A; LCSC Part #: N/A; Mount: THT; Package / Case: N/A; Supplier 1: Mouser; Supplier 1 Part Number: 710-692121030100; Supplier 2: Digi-Key; Supplier 2 Part Number: N/A; Supplier 3: thegioiic; Supplier 3 Part Number: N/A
footprint 692121030100
pins: 1 VBUS, 2 D-, 3 D+, 4 GND, 5 StdA_SSRX-, 6 StdA_SSRX+, 7 GND_DRAIN, 8 StdA_SSTX-, 9 StdA_SSTX+, Shell Shield

## 692121130100
designator J?, comment USB 3.0 Type A
USB 3.0 Type A Receptacle WR-COM, Reverse Horizontal, SMT / THT, with Clips, with 0.14 mm Offset; Manufacturer: Wurth Elektronik; Manufacturer Part Number: 692121130100; Rated Current: 0.25 A; Contact Resistance: 50 mOhm; Working Voltage: 30 VAC; ComponentLink1Description: Datasheet; ComponentLink1URL: https://katalog.we-online.de/em/datasheet/692121130100.pdf; Published Date: September 2018; Orientation: Reverse Horizontal; Connector Type: USB 3.0 Type A; Operating Temperature: -20 to 85 degC; Gender: Receptacle; Packaging: Tape and Reel; Supplier 1 URL: https://www.mouser.vn/ProductDetail/Wurth-Elektronik/692121130100?qs=e5m3IbTHPW83%252BpYn754Ctg%3D%3D; Supplier 2 URL: N/A; Supplier 3 SN: N/A; Supplier 3 URL: N/A; Value: USB 3.0 Type A; LCSC Part #: N/A; Mount: SMT / THT; Package / Case: N/A; Supplier 1: Mouser; Supplier 1 Part Number: 710-692121130100; Supplier 2: Digi-Key; Supplier 2 Part Number: N/A; Supplier 3: thegioiic; Supplier 3 Part Number: N/A
footprint 692121130100
pins: 1 VBUS, 2 D-, 3 D+, 4 GND, 5 StdA_SSRX-, 6 StdA_SSRX+, 7 GND_DRAIN, 8 StdA_SSTX-, 9 StdA_SSTX+, Shell Shield

## 692121230100
designator J?, comment USB 3.0 Type A
USB 3.0 Type A Receptacle WR-COM, Horizontal, THT, with Clips, with 1.04 mm Offset; Manufacturer: Wurth Elektronik; Manufacturer Part Number: 692121230100; Rated Current: 0.25 A; Contact Resistance: 50 mOhm; Working Voltage: 30 VAC; ComponentLink1Description: Datasheet; ComponentLink1URL: https://katalog.we-online.de/em/datasheet/692121230100.pdf; Published Date: September 2018; Orientation: Horizontal; Connector Type: USB 3.0 Type A; Operating Temperature: -20 to 85 degC; Gender: Receptacle; Packaging: Tape and Reel; Supplier 1 URL: https://www.mouser.vn/ProductDetail/Wurth-Elektronik/692121230100?qs=e5m3IbTHPW%2FDHF4StRNH4g%3D%3D; Supplier 2 URL: N/A; Supplier 3 SN: N/A; Supplier 3 URL: N/A; Value: USB 3.0 Type A; LCSC Part #: N/A; Mount: THT; Package / Case: N/A; Supplier 1: Mouser; Supplier 1 Part Number: 710-692121230100; Supplier 2: Digi-Key; Supplier 2 Part Number: N/A; Supplier 3: thegioiic; Supplier 3 Part Number: N/A
footprint 692121230100
pins: 1 VBUS, 2 D-, 3 D+, 4 GND, 5 StdA_SSRX-, 6 StdA_SSRX+, 7 GND_DRAIN, 8 StdA_SSTX-, 9 StdA_SSTX+, Shell Shield

## 692121330100
designator J?, comment USB 3.0 Type A
USB 3.0 Type A Receptacle WR-COM, Reverse Horizontal, SMT / THT, with Clips, with 1.75 mm Offset; Manufacturer: Wurth Elektronik; Manufacturer Part Number: 692121330100; Rated Current: 0.25 A; Contact Resistance: 50 mOhm; Working Voltage: 30 VAC; ComponentLink1Description: Datasheet; ComponentLink1URL: https://katalog.we-online.de/em/datasheet/692121330100.pdf; Published Date: September 2018; Orientation: Reverse Horizontal; Connector Type: USB 3.0 Type A; Operating Temperature: -20 to 85 degC; Gender: Receptacle; Packaging: Tape and Reel; Supplier 1 URL: https://www.mouser.vn/ProductDetail/Wurth-Elektronik/692121330100?qs=e5m3IbTHPW99Xr8Z17AOaA%3D%3D; Supplier 2 URL: N/A; Supplier 3 SN: N/A; Supplier 3 URL: N/A; Value: USB 3.0 Type A; LCSC Part #: N/A; Mount: SMT / THT; Package / Case: N/A; Supplier 1: Mouser; Supplier 1 Part Number: 710-692121330100; Supplier 2: Digi-Key; Supplier 2 Part Number: N/A; Supplier 3: thegioiic; Supplier 3 Part Number: N/A
footprint 692121330100
pins: 1 VBUS, 2 D-, 3 D+, 4 GND, 5 StdA_SSRX-, 6 StdA_SSRX+, 7 GND_DRAIN, 8 StdA_SSTX-, 9 StdA_SSTX+, Shell Shield

## 692121430000
designator J?, comment USB 3.0 Type A
USB 3.0 Type A Receptacle WR-COM, Vertical, THT; Manufacturer: Wurth Elektronik; Manufacturer Part Number: 692121430000; Rated Current: 0.25 A; Contact Resistance: 50 mOhm; Working Voltage: 30 VAC; ComponentLink1Description: Datasheet; ComponentLink1URL: https://katalog.we-online.de/em/datasheet/692121430000.pdf; Published Date: September 2018; Orientation: Vertical; Connector Type: USB 3.0 Type A; Operating Temperature: -20 to 85 degC; Gender: Receptacle; Packaging: Tray; Supplier 1 URL: https://www.mouser.vn/ProductDetail/Wurth-Elektronik/692121430000?qs=rpZl0fJ%252B%2F%2F4t4glJEDfopg%3D%3D; Supplier 2 URL: N/A; Supplier 3 SN: N/A; Supplier 3 URL: https://www.thegioiic.com/cong-usb-cai-3-0-type-a-9-chan-thang-xuyen-lo; Value: USB 3.0 Type A; LCSC Part #: N/A; Mount: THT; Package / Case: N/A; Supplier 1: Mouser; Supplier 1 Part Number: 710-692121430000; Supplier 2: Digi-Key; Supplier 2 Part Number: N/A; Supplier 3: thegioiic; Supplier 3 Part Number: N/A
footprint 692121430000
pins: 1 VBUS, 2 D-, 3 D+, 4 GND, 5 StdA_SSRX-, 6 StdA_SSRX+, 7 GND_DRAIN, 8 StdA_SSTX-, 9 StdA_SSTX+, Shell Shield

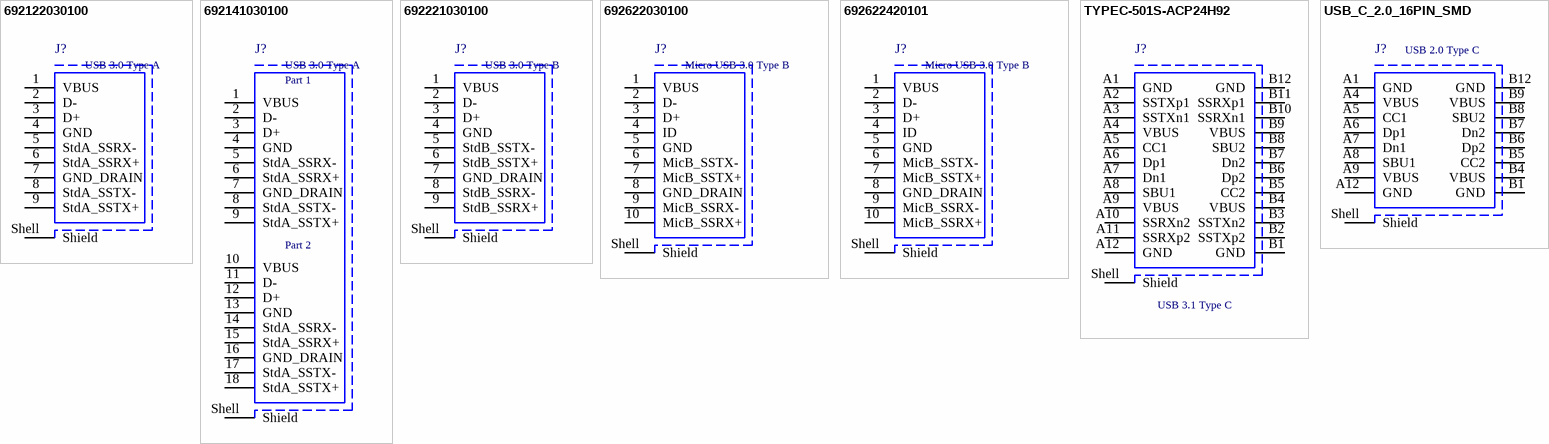
[diagram p1: symbols 692122030100 to USB_C_2.0_16PIN_SMD]

## 692122030100
designator J?, comment USB 3.0 Type A
USB 3.0 Type A Receptacle WR-COM, Horizontal, SMT, with Pegs; Manufacturer: Wurth Elektronik; Manufacturer Part Number: 692122030100; Rated Current: 0.25 A; Contact Resistance: 50 mOhm; Working Voltage: 30 VAC; ComponentLink1Description: Datasheet; ComponentLink1URL: https://katalog.we-online.de/em/datasheet/692122030100.pdf; Published Date: September 2018; Orientation: Horizontal; Connector Type: USB 3.0 Type A; Operating Temperature: -20 to 85 degC; Gender: Receptacle; Packaging: Tape and Reel; Supplier 1 URL: https://www.mouser.vn/ProductDetail/Wurth-Elektronik/692122030100?qs=e5m3IbTHPW%252BwkSEzX%252BzXuw%3D%3D; Supplier 2 URL: N/A; Supplier 3 SN: N/A; Supplier 3 URL: N/A; Value: USB 3.0 Type A; LCSC Part #: N/A; Mount: SMT; Package / Case: N/A; Supplier 1: Mouser; Supplier 1 Part Number: 710-692122030100; Supplier 2: Digi-Key; Supplier 2 Part Number: N/A; Supplier 3: thegioiic; Supplier 3 Part Number: N/A
footprint 692122030100
pins: 1 VBUS, 2 D-, 3 D+, 4 GND, 5 StdA_SSRX-, 6 StdA_SSRX+, 7 GND_DRAIN, 8 StdA_SSTX-, 9 StdA_SSTX+, Shell Shield

## 692141030100
designator J?, comment USB 3.0 Type A
USB 3.0 Type A Receptacle WR-COM, Stacked Horizontal, THT; Manufacturer: Wurth Elektronik; Manufacturer Part Number: 692141030100; Rated Current: 0.25 A; Contact Resistance: 50 mOhm; Working Voltage: 30 VAC; ComponentLink1Description: Datasheet; ComponentLink1URL: https://katalog.we-online.de/em/datasheet/692141030100.pdf; Published Date: September 2018; Orientation: Stacked Horizontal; Connector Type: USB 3.0 Type A; Operating Temperature: -40 to 85 degC; Gender: Receptacle; Packaging: Tray; Supplier 1 URL: https://www.mouser.vn/ProductDetail/Wurth-Elektronik/692141030100?qs=e5m3IbTHPW%252BhJaDZDD1GNQ%3D%3D; Supplier 2 URL: N/A; Supplier 3 SN: N/A; Supplier 3 URL: https://www.thegioiic.com/cong-usb-cai-doi-3-0-type-a-18-chan-thang-han-pcb; Value: USB 3.0 Type A; LCSC Part #: N/A; Mount: THT; Package / Case: N/A; Supplier 1: Mouser; Supplier 1 Part Number: 710-692141030100; Supplier 2: Digi-Key; Supplier 2 Part Number: N/A; Supplier 3: thegioiic; Supplier 3 Part Number: N/A
footprint 692141030100
pins: 1 VBUS, 2 D-, 3 D+, 4 GND, 5 StdA_SSRX-, 6 StdA_SSRX+, 7 GND_DRAIN, 8 StdA_SSTX-, 9 StdA_SSTX+, 10 VBUS, 11 D-, 12 D+, 13 GND, 14 StdA_SSRX-, 15 StdA_SSRX+, 16 GND_DRAIN, 17 StdA_SSTX-, 18 StdA_SSTX+, Shell Shield
text: Part 1; Part 2

## 692221030100
designator J?, comment USB 3.0 Type B
USB 3.0 Type B Receptacle WR-COM, Horizontal, THT; Manufacturer: Wurth Elektronik; Manufacturer Part Number: 692221030100; Rated Current: 0.25 A; Contact Resistance: 50 mOhm; Working Voltage: 30 VAC; ComponentLink1Description: Datasheet; ComponentLink1URL: https://katalog.we-online.de/em/datasheet/692221030100.pdf; Published Date: September 2018; Orientation: Horizontal; Connector Type: USB 3.0 Type B; Operating Temperature: -20 to 85 degC; Gender: Receptacle; Packaging: Tray; Supplier 1 URL: https://www.mouser.vn/ProductDetail/Wurth-Elektronik/692221030100?qs=e5m3IbTHPW%2F1T4qlB0JfxA%3D%3D; Supplier 2 URL: N/A; Supplier 3 SN: N/A; Supplier 3 URL: https://www.thegioiic.com/bf90-cong-usb-cai-3-0-type-b-9-chan-cong-90-do-xuyen-lo; Value: USB 3.0 Type B; LCSC Part #: N/A; Mount: THT; Package / Case: N/A; Supplier 1: Mouser; Supplier 1 Part Number: 710-692221030100; Supplier 2: Digi-Key; Supplier 2 Part Number: N/A; Supplier 3: thegioiic; Supplier 3 Part Number: N/A
footprint 692221030100
pins: 1 VBUS, 2 D-, 3 D+, 4 GND, 5 StdB_SSTX-, 6 StdB_SSTX+, 7 GND_DRAIN, 8 StdB_SSRX-, 9 StdB_SSRX+, Shell Shield

## 692622030100
designator J?, comment Micro USB 3.0 Type B
Micro USB 3.0 Type B Receptacle WR-COM, Horizontal, SMT, with Pads; Manufacturer: Wurth Elektronik; Manufacturer Part Number: 692622030100; Rated Current: 0.25 A; Contact Resistance: 50 mOhm; Working Voltage: 30 VAC; ComponentLink1Description: Datasheet; ComponentLink1URL: https://katalog.we-online.de/em/datasheet/692622030100.pdf; Published Date: September 2018; Orientation: Horizontal; Connector Type: Micro USB 3.0 Type B; Operating Temperature: -20 to 85 degC; Gender: Receptacle; Packaging: Tape and Reel; Supplier 1 URL: https://www.mouser.vn/ProductDetail/Wurth-Elektronik/692622030100?qs=e5m3IbTHPW96DxjuTwzqKQ%3D%3D; Supplier 2 URL: N/A; Supplier 3 SN: N/A; Supplier 3 URL: N/A; Value: Micro USB 3.0 Type B; LCSC Part #: N/A; Mount: SMT; Package / Case: N/A; Supplier 1: Mouser; Supplier 1 Part Number: 710-692622030100; Supplier 2: Digi-Key; Supplier 2 Part Number: N/A; Supplier 3: thegioiic; Supplier 3 Part Number: N/A
footprint 692622030100
pins: 1 VBUS, 2 D-, 3 D+, 4 ID, 5 GND, 6 MicB_SSTX-, 7 MicB_SSTX+, 8 GND_DRAIN, 9 MicB_SSRX-, 10 MicB_SSRX+, Shell Shield